# EAGLE library part TINY24/44/84S (library CEDT)
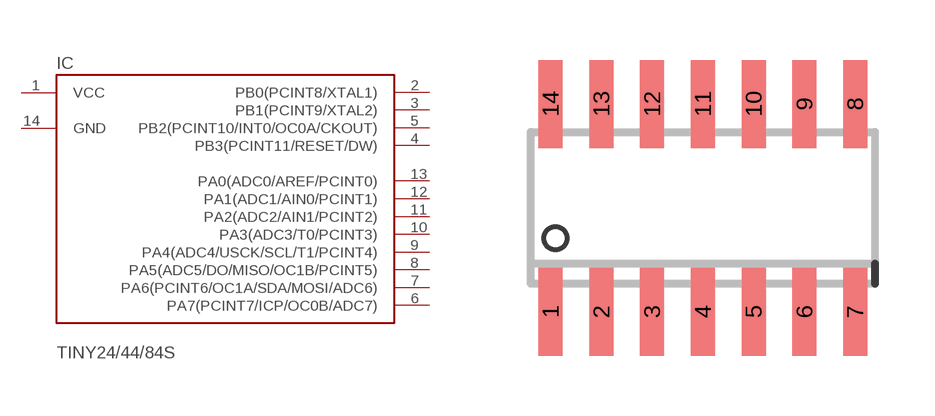
[diagram p2: symbol with the pads of SOIC14; footprint SOIC14]

Designator prefix IC

## TINY24/44/84S  [SOIC14]
1  VCC  pwr
2  PB0(PCINT8/XTAL1)
3  PB1(PCINT9/XTAL2)
4  PB3(PCINT11/RESET/DW)
5  PB2(PCINT10/INT0/OC0A/CKOUT)
6  PA7(PCINT7/ICP/OC0B/ADC7)
7  PA6(PCINT6/OC1A/SDA/MOSI/ADC6)
8  PA5(ADC5/DO/MISO/OC1B/PCINT5)
9  PA4(ADC4/USCK/SCL/T1/PCINT4)
10  PA3(ADC3/T0/PCINT3)
11  PA2(ADC2/AIN1/PCINT2)
12  PA1(ADC1/AIN0/PCINT1)
13  PA0(ADC0/AREF/PCINT0)
14  GND  pwr

## Footprint SOIC14 (pad centres in mm)
Small Outline Integrated Circuit - 14 Pins
smd 0.6 x 2.2: 1 -4.445,-2.6; 2 -3.175,-2.6; 3 -1.905,-2.6; 4 -0.635,-2.6; 5 0.635,-2.6; 6 1.905,-2.6; 7 3.175,-2.6; 8 3.175,2.6; 9 1.905,2.6; 10 0.635,2.6; 11 -0.635,2.6; 12 -1.905,2.6; 13 -3.175,2.6; 14 -4.445,2.6